# Altium schematic symbol library LM393DG.SchLib: 1 symbol
Pins are listed as number, name and electrical type; pins without a type are passive.

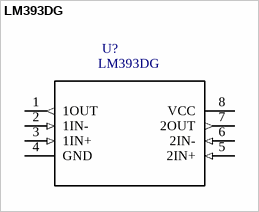
[diagram p0: symbol LM393DG]

## LM393DG
designator U?
Comparator General Purpose CMOS, DTL, ECL, MOS, Open-Collector, TTL 8-SOIC; MF: ON Semiconductor; Check_prices: https://www.snapeda.com/parts/LM393DG/Onsemi/view-part/?ref=eda; Availability: In Stock; Price: None; Package: SOIC-8 ON Semiconductor; SnapEDA_Link: https://www.snapeda.com/parts/LM393DG/Onsemi/view-part/?ref=snap; Purchase-URL: https://pricing.snapeda.com/search/part/LM393DG/?ref=eda; MP: LM393DG; Value: *
footprint *SOIC8_ONS
pins: 1 1OUT (out), 2 1IN- (in), 3 1IN+ (in), 4 GND (power), 5 2IN+ (in), 6 2IN- (in), 7 2OUT (out), 8 VCC (power)